# EAGLE library part XF2*-08? (library JLB6_Connec)
OMRON FPC Connector Source : http://www.omron.com/ecb/products/pdf/fpc.pdf
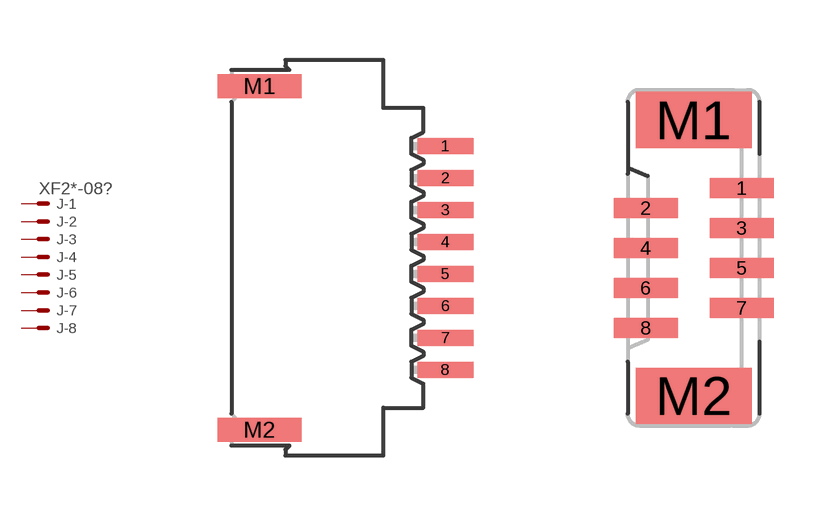
[diagram p76: symbol with the pads of XF2E-0815-1; footprints XF2E-0815-1, XF2J-0824-11]

Designator prefix J; gates -1=PV -2=P -3=P -4=P -5=P -6=P -7=P -8=P

## XF2E-0815-1  [XF2E-0815-1]
1  -1:MSV  pas
2  -2:MS  pas
3  -3:MS  pas
4  -4:MS  pas
5  -5:MS  pas
6  -6:MS  pas
7  -7:MS  pas
8  -8:MS  pas

## XF2J-0824-11  [XF2J-0824-11]
Pads as for XF2E-0815-1

## XF2J-0824-12  [XF2J-0824-12]
Pads as for XF2E-0815-1

## XF2L-0825-1  [XF2L-0825-1]
Pads as for XF2E-0815-1

## XF2L-0835-1  [XF2L-0835-1]
Pads as for XF2E-0815-1

## Footprint XF2E-0815-1 (pad centres in mm)
Non-ZIF Type (0.8 mm-pitch) Source : http://www.omron.com/ecb/products/pdf/fpc.pdf
smd 1.4 x 0.4: 1 2.54,2.8; 2 2.54,2; 3 2.54,1.2; 4 2.54,0.4; 5 2.54,-0.4; 6 2.54,-1.2; 7 2.54,-2; 8 2.54,-2.8
smd 2.1 x 0.6: M1 -2.11,4.3; M2 -2.11,-4.3

## Footprint XF2J-0824-11 (pad centres in mm)
ZIF Slide-locking Type (0.5 mm-pitch) Standard Source : http://www.omron.com/ecb/products/pdf/fpc.pdf
smd 1.6 x 0.5: 1 1.2,1.75; 2 -1.2,1.25; 3 1.2,0.75; 4 -1.2,0.25; 5 1.2,-0.25; 6 -1.2,-0.75; 7 1.2,-1.25; 8 -1.2,-1.75
smd 2.9 x 1.4: M1 0,3.45; M2 0,-3.45

## Footprint XF2J-0824-12 (pad centres in mm)
ZIF Slide-locking Type (0.5 mm-pitch) Reverse Source : http://www.omron.com/ecb/products/pdf/fpc.pdf
smd 1.6 x 0.5: 1 -1.2,1.75; 2 1.2,1.25; 3 -1.2,0.75; 4 1.2,0.25; 5 -1.2,-0.25; 6 1.2,-0.75; 7 -1.2,-1.25; 8 1.2,-1.75
smd 2.9 x 1.4: M1 0,3.45; M2 0,-3.45

## Footprint XF2L-0825-1 (pad centres in mm)
ZIF Slide-locking Type (0.5 mm-pitch) Upper-contact Type Source : http://www.omron.com/ecb/products/pdf/fpc.pdf
smd 1 x 0.25: 1 1.905,1.75; 2 1.905,1.25; 3 1.905,0.75; 4 1.905,0.25; 5 1.905,-0.25; 6 1.905,-0.75; 7 1.905,-1.25; 8 1.905,-1.75
smd 1.34 x 1: M1 0.18,4.138; M2 0.18,-4.138

## Footprint XF2L-0835-1 (pad centres in mm)
ZIF Slide-locking Type (0.5 mm-pitch) Lower-contact Type Source : http://www.omron.com/ecb/products/pdf/fpc.pdf
smd 1 x 0.25: 1 1.905,1.75; 2 1.905,1.25; 3 1.905,0.75; 4 1.905,0.25; 5 1.905,-0.25; 6 1.905,-0.75; 7 1.905,-1.25; 8 1.905,-1.75
smd 1.34 x 1: M1 0.18,4.138; M2 0.18,-4.138